# Altium footprint library 555Timer.PcbLib: 5 footprints
Each footprint in its own frame and in the unit in brackets; x right, y up, seen from the top. Pads: shape width x height; smd on the part's side, far side on the other; paste and mask are expansions set on the pad; w line width, h text height; cw(c..) or ccw(c..) is an arc to the next point about the centre after c.
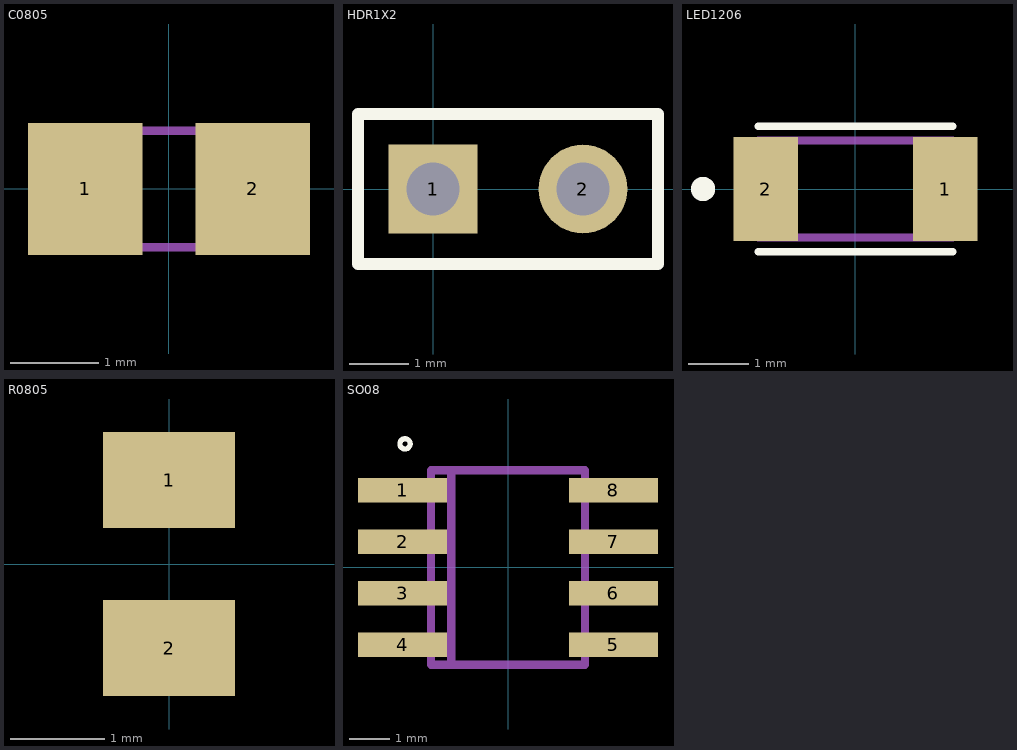
[diagram p0: the footprints below, top view; thin cyan lines are the x and y axes]

## C0805 [mm]
pads (2):
  rect 1.3x1.5 smd: 1(-0.95,0) 2(0.95,0)
Mechanical 4:
  region: 0.356,0.726 1.106,0.726 1.106,-0.725 0.356,-0.725
  region: -1.094,0.726 -0.342,0.726 -0.342,-0.725 -1.094,-0.725
  region: 0.356,0.726 1.106,0.726 1.106,-0.725 0.356,-0.725
  region: -1.094,0.726 -0.342,0.726 -0.342,-0.725 -1.094,-0.725
  lines w0.102: -0.381,0.66 0.381,0.66 -0.381,0.66 ; -0.356,-0.66 0.381,-0.66 -0.356,-0.66

## HDR1X2 [mm] "Connector; Header; 2 Position"
pads (2):
  rect 1.5x1.5 hole 0.9: 1(0,0)
  round 1.5 hole 0.9: 2(2.54,0)
Top Overlay:
  lines w0.2: -1.27,-1.27 -1.27,1.27 3.81,1.27 3.81,-1.27 -1.27,-1.27

## LED1206 [mm]
pads (2):
  rect 1.06x1.71 smd: 1(1.475,0) 2(-1.475,0)
Top Overlay:
  circle w0.2: c-2.508,0 r0.1
  lines w0.127: -1.6,-1.035 1.6,-1.035 ; -1.6,1.035 1.6,1.035
Mechanical 4:
  circle w0.2: c-1.238,-0.508 r0.1
  circle w0.2: c-1.238,-0.508 r0.1
  lines w0.127: -1.6,-0.8 -1.6,0.8 ; -1.6,-0.8 1.6,-0.8 ; -1.6,-0.8 -1.6,0.8 ; -1.6,-0.8 1.6,-0.8 ; -1.6,0.8 1.6,0.8 ; -1.6,0.8 1.6,0.8 ; 1.6,-0.8 1.6,0.8 ; 1.6,-0.8 1.6,0.8

## R0805 [mil]
pads (2):
  rect 55x40 smd: 1(0,35) 2(0,-35)

## SO08 [mm]
pads (8):
  rect 2.2x0.6 smd: 1(-2.6,1.905) 2(-2.6,0.635) 3(-2.6,-0.635) 4(-2.6,-1.905) 5(2.6,-1.905) 6(2.6,-0.635) 7(2.6,0.635) 8(2.6,1.905)
Top Overlay:
  circle w0.127: c-2.54,3.048 r0.127
Mechanical 4:
  region: 3.1,2.15 3.1,1.66 2,1.66 2,2.15
  region: 3.102,0.878 3.102,0.392 2.002,0.392 2.002,0.878
  region: 3.103,-0.393 3.103,-0.879 2.001,-0.879 2.001,-0.393
  region: 3.104,-1.664 3.104,-2.15 2,-2.15 2,-1.664
  region: -2,-1.66 -2,-2.151 -3.101,-2.151 -3.101,-1.66
  region: -2,-0.39 -2,-0.881 -3.101,-0.881 -3.101,-0.39
  region: -2.001,0.881 -2.001,0.389 -3.101,0.389 -3.101,0.881
  region: -2,2.15 -2,1.66 -3.1,1.66 -3.1,2.15
  region: 3.1,2.15 3.1,1.66 2,1.66 2,2.15
  region: 3.102,0.878 3.102,0.392 2.002,0.392 2.002,0.878
  region: 3.103,-0.393 3.103,-0.879 2.001,-0.879 2.001,-0.393
  region: 3.104,-1.664 3.104,-2.15 2,-2.15 2,-1.664
  region: -2,-1.66 -2,-2.151 -3.101,-2.151 -3.101,-1.66
  region: -2,-0.39 -2,-0.881 -3.101,-0.881 -3.101,-0.39
  region: -2.001,0.881 -2.001,0.389 -3.101,0.389 -3.101,0.881
  region: -2,2.15 -2,1.66 -3.1,1.66 -3.1,2.15
  lines w0.203: -1.9,-2.4 -1.9,2.4 ; -1.9,-2.4 -1.4,-2.4 ; -1.9,-2.4 -1.9,2.4 ; -1.9,-2.4 -1.4,-2.4 ; -1.9,2.4 -1.4,2.4 ; -1.9,2.4 -1.4,2.4 ; -1.4,-2.4 -1.4,2.4 ; -1.4,-2.4 1.9,-2.4 ; -1.4,-2.4 -1.4,2.4 ; -1.4,-2.4 1.9,-2.4 ; -1.4,2.4 1.9,2.4 ; -1.4,2.4 1.9,2.4 ; 1.9,-2.4 1.9,2.4 ; 1.9,-2.4 1.9,2.4